# EAGLE library part TPS6303* (library Regulator)
IC REG BUCK BST 3.3V 0.9A 10SON Buck-Boost Switching Regulator IC Positive ADJ/ Fixed 3.3V 1 Output 900mA (Switch) 10-WFDFN Exposed Pad TPS6303x Datasheet <http://www.ti.com/lit/ds/symlink/tps63030.pdf>
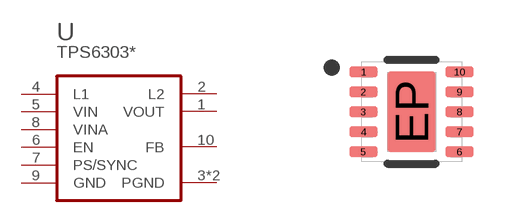
[diagram p8: symbol with the pads of SON-10; footprint SON-10]

Designator prefix U

## TPS63030DSK (DATASHEET: http://goo.gl/ja9zLB; DESC: Instruments IC REG BUCK BOOST ADJ 0.9A 10SON; MANF: Texas Instruments; MFPN: TPS63030DSK; RATE: 900mA; SIZE: SON-10; STATUS: Active; TOPOLOGY: Buck-Boost; TYPE: Adjustable; VIN: 1.8V~5.5V; VOUT: 1.2V~5.5V), TPS63031DSK (DATASHEET: http://goo.gl/ja9zLB; DESC: IC REG BUCK BST 3.3V 0.9A 10SON; MANF: Texas Instruments; MFPN: TPS63031DSK; RATE: 900mA; SIZE: SON-10; STATUS: Active; TOPOLOGY: Buck-Boost; TYPE: Fixed; VIN: 1.8V~5.5V; VOUT: 3.3V)  [SON-10]
1  VOUT  pwr
2  L2  pwr
3  PGND  pwr
4  L1  pwr
5  VIN  pwr
6  EN  in
7  PS/SYNC  in
8  VINA  pwr
9  GND  pwr
10  FB  pas
EP  PGND  pwr

## Footprint SON-10 (pad centres in mm)
SON-10 / 10-WFDFN Exposed Pad (2.5 x 2.5mm) Small Outline No-Lead (SON with Tab), 0.50 mm pitch; 10 pin, 2.50 mm L X 2.50 mm W X 0.80 mm H body TI DSK Package S-PDSO-N10 <http://www.ti.com/lit/ml/mpds326/mpds326.pdf>
smd 0.71 x 0.27: 1 -1.2,1; 2 -1.2,0.5; 3 -1.2,0; 4 -1.2,-0.5; 5 -1.2,-1; 6 1.2,-1; 7 1.2,-0.5; 8 1.2,0; 9 1.2,0.5; 10 1.2,1
smd 1.2 x 2: EP 0,0